# EAGLE library part MAX3378E (library Oles komponentbibliotek)
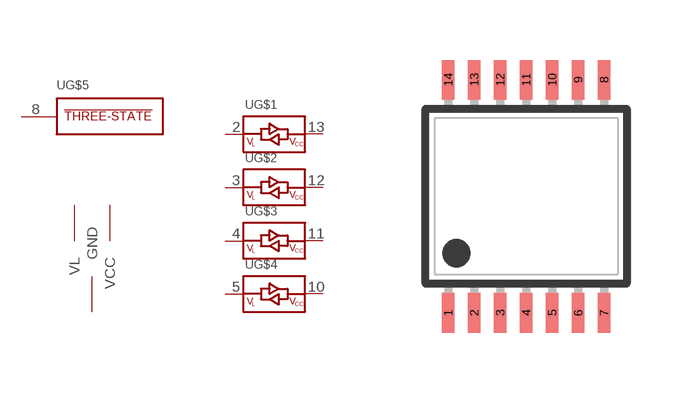
[diagram p13: symbol with the pads of TSSOP14; footprint TSSOP14]

Designator prefix -; gates G$1=MAX3378-BIDIR G$2=MAX3378-BIDIR G$3=MAX3378-BIDIR G$4=MAX3378-BIDIR G$5=MAX3378-TRISTATE G$6=MAX337X/339X-POWER

## MAX3378E  [TSSOP14]
1  G$6:VL  pwr
2  G$1:I/O-VL
3  G$2:I/O-VL
4  G$3:I/O-VL
5  G$4:I/O-VL
7  G$6:GND  pwr
8  G$5:P$1  in
10  G$4:I/O-VCC
11  G$3:I/O-VCC
12  G$2:I/O-VCC
13  G$1:I/O-VCC
14  G$6:VCC  pwr

## Footprint TSSOP14 (pad centres in mm)
Thin Shrink Small Outline Plastic 14
smd 0.305 x 0.991: 1 -1.95,-2.918; 2 -1.3,-2.918; 3 -0.65,-2.918; 4 0,-2.918; 5 0.65,-2.918; 6 1.3,-2.918; 7 1.95,-2.918; 8 1.95,2.918; 9 1.3,2.918; 10 0.65,2.918; 11 0,2.918; 12 -0.65,2.918; 13 -1.3,2.918; 14 -1.95,2.918